# EAGLE library part X_STECKERLEISTE_DOPPEL_10 (library ++Bedrahtet)
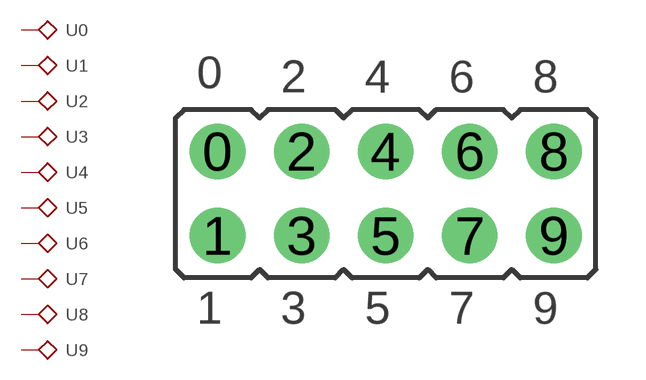
[diagram p19: symbol with the pads of STECKERLEISTE_DOPPEL_10; footprint STECKERLEISTE_DOPPEL_10]

Designator prefix -; gates 1=PIN 2=PIN 3=PIN 4=PIN 5=PIN 6=PIN 7=PIN 8=PIN 9=PIN 0=PIN

## X_STECKERLEISTE_DOPPEL_10  [STECKERLEISTE_DOPPEL_10]
0  0:1
1  1:1
2  2:1
3  3:1
4  4:1
5  5:1
6  6:1
7  7:1
8  8:1
9  9:1

## Footprint STECKERLEISTE_DOPPEL_10 (pad centres in mm)
drill 1 pad 1.676: 0 -6.35,1.27; 1 -6.35,-1.27; 2 -3.81,1.27; 3 -3.81,-1.27; 4 -1.27,1.27; 5 -1.27,-1.27; 6 1.27,1.27; 7 1.27,-1.27; 8 3.81,1.27; 9 3.81,-1.27